# Altium footprint library Power Board UCC28951.PcbLib: 44 footprints (part 3 of 3)
Each footprint in its own frame and in the unit in brackets; x right, y up, seen from the top. Pads: shape width x height; smd on the part's side, far side on the other; paste and mask are expansions set on the pad; w line width, h text height; cw(c..) or ccw(c..) is an arc to the next point about the centre after c.
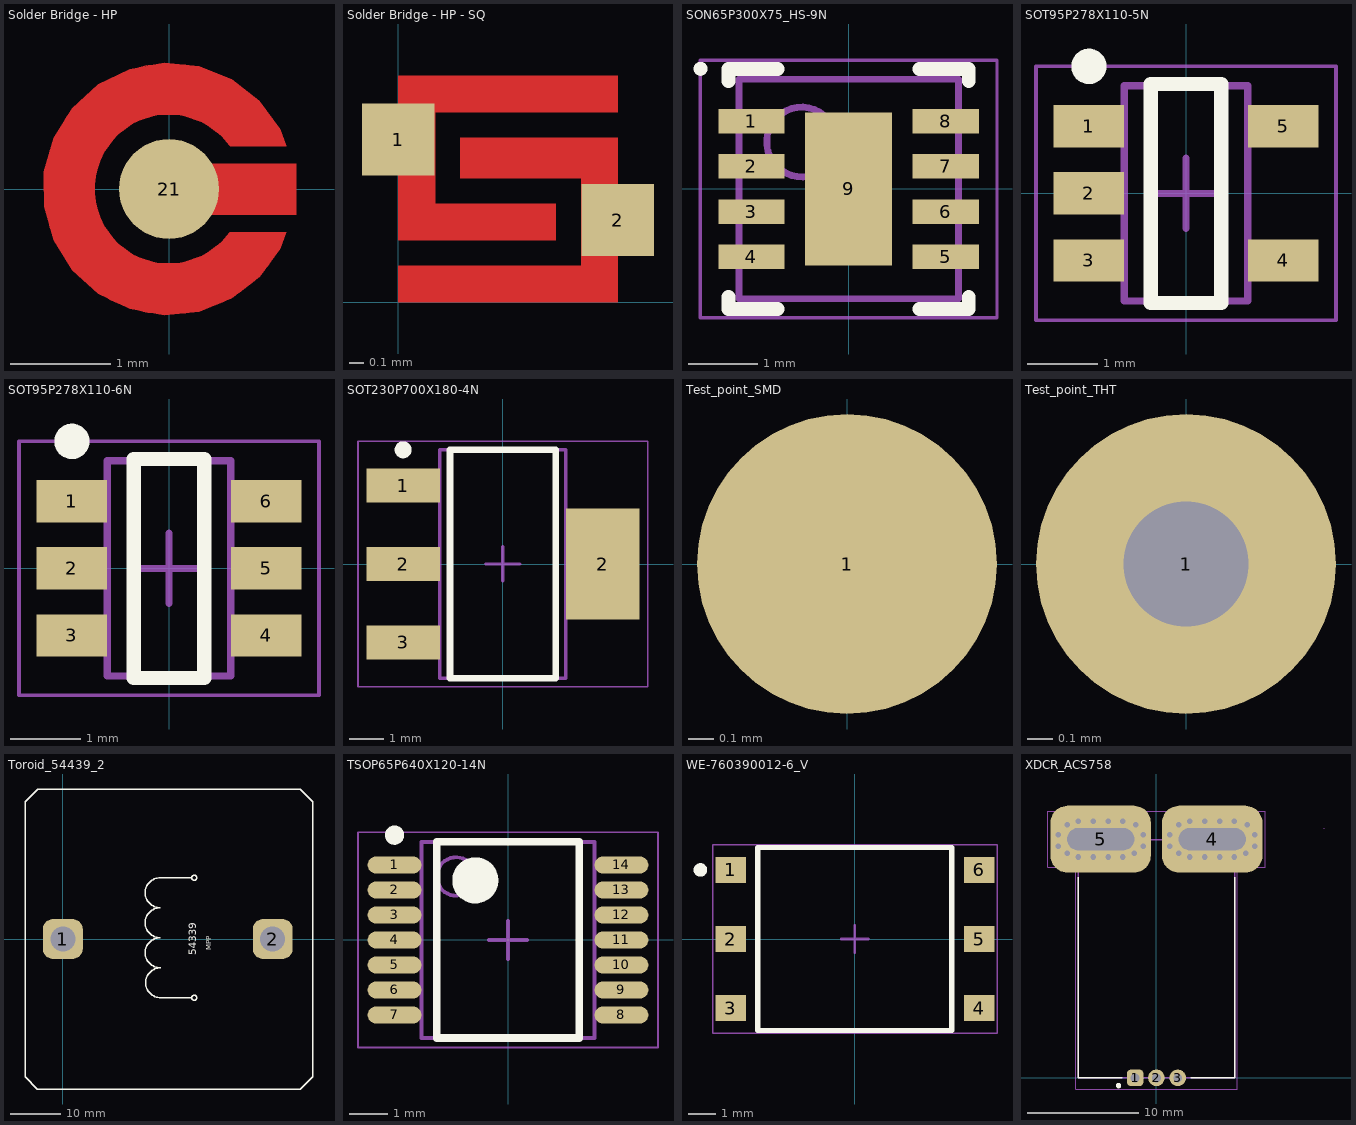
[diagram p2: the footprints below, top view; thin cyan lines are the x and y axes]

## Solder Bridge - HP [mm]
pads (1):
  round 1 smd: 21(0,0)
Top Layer:
  region: 1.173,-0.432 1.112,-0.596 0.905,-0.88 0.628,-1.095 0.303,-1.225 -0.046,-1.261 -0.392,-1.2 -0.707,-1.046 -0.967,-0.811 -1.153,-0.513 -1.25,-0.176 -1.25,0.175 -1.154,0.512 -0.968,0.81 -0.708,1.045 -0.393,1.2 -0.048,1.261 0.301,1.226 0.627,1.095 0.904,0.881 1.112,0.598 1.173,0.433 0.614,0.43 0.539,0.522 0.35,0.663 0.126,0.739 -0.11,0.742 -0.335,0.671 -0.527,0.533 -0.667,0.343 -0.741,0.118 -0.741,-0.118 -0.667,-0.343 -0.527,-0.533 -0.335,-0.671 -0.11,-0.742 0.126,-0.739 0.35,-0.663 0.539,-0.522 0.614,-0.43
  region: 0,-0.254 0,0.254 1.27,0.254 1.27,-0.254
  lines w0.01: 0,-0.254 1.27,-0.254 1.27,0.254 0,0.254 0,0 0,-0.254 ; 0.614,-0.43 cw(c0,0) 0.614,0.43 1.173,0.433 ccw(c0,0) 1.173,-0.432 0.614,-0.43
Top Solder:
  region: 0,-1.5 -0.148,-1.5 -0.438,-1.442 -0.711,-1.329 -0.956,-1.165 -1.165,-0.956 -1.329,-0.711 -1.442,-0.438 -1.5,-0.148 -1.5,0 -1.5,0.148 -1.442,0.438 -1.329,0.711 -1.165,0.956 -0.956,1.165 -0.711,1.329 -0.438,1.442 -0.148,1.5 0,1.5 0.148,1.5 0.438,1.442 0.711,1.329 0.956,1.165 1.165,0.956 1.329,0.711 1.442,0.438 1.5,0.148 1.5,0 1.5,-0.148 1.442,-0.438 1.329,-0.711 1.165,-0.956 0.956,-1.165 0.711,-1.329 0.438,-1.442 0.148,-1.5

## Solder Bridge - HP - SQ [mm]
pads (2):
  rect 0.5x0.5 smd: 1(0,1.13) 2(1.524,0.572)
Top Layer:
  region: 0,0 0,0.254 1.27,0.254 1.27,0.864 0.432,0.864 0.432,1.143 1.524,1.143 1.524,0
  region: 0,0.432 0,1.575 1.524,1.575 1.524,1.321 0.254,1.321 0.254,0.686 1.092,0.686 1.092,0.432
  lines w0.01: 0.254,0.686 0.254,1.321
Top Solder:
  region: -0.102,1.6
  region: -0.279,1.6 -0.279,-0.025 1.803,-0.025 1.803,1.6

## SON65P300X75_HS-9N [mm] "SON, 8-Leads, Body 3.00x3.00mm, Pitch 0.65mm, Thermal Pad 2.20x1.25mm, IPC Medium Density"
height 0.75
pads (9):
  rect 0.95x0.35 smd: 1(-1.395,0.975) 2(-1.395,0.325) 3(-1.395,-0.325) 4(-1.395,-0.975) 5(1.395,-0.975) 6(1.395,-0.325) 7(1.395,0.325) 8(1.395,0.975)
  rect 1.25x2.2 smd: 9(0,0)
Top Overlay:
  circle w0.1: c-2.125,1.725 r0.05
  lines w0.2: -1.725,-1.55 -1.725,-1.725 -1.02,-1.725 ; -1.725,1.55 -1.725,1.725 -1.02,1.725 ; 1.02,-1.725 1.725,-1.725 1.725,-1.55 ; 1.02,1.725 1.725,1.725 1.725,1.55
Mechanical 13:
  circle w0.1: c-0.675,0.675 r0.5
  lines w0.1: -1.575,-1.575 -1.575,1.575 1.575,1.575 1.575,-1.575 -1.575,-1.575
Mechanical 15:
  lines w0.05: -2.13,-1.85 -2.13,1.85 2.13,1.85 2.13,-1.85 -2.13,-1.85
  lines w0.1: -0.5,0 0.5,0 ; 0,-0.5 0,0.5
3D body "SON65P300X75_HS-9N.step": height 0.75, standoff 0, extent -1.675,-1.575 1.675,1.575

## SOT95P278X110-5N [mm] "SOT23, 5-Leads, Body 2.90x2.78mm, Pitch 0.95mm, IPC Medium Density"
height 1.1
pads (5):
  rect 1x0.6 smd: 1(-1.375,0.95) 2(-1.375,0) 3(-1.375,-0.95) 4(1.375,-0.95) 5(1.375,0.95)
Top Overlay:
  circle w0.25: c-1.375,1.8 r0.125
  lines w0.2: -0.5,-1.55 0.5,-1.55 0.5,1.55 -0.5,1.55 -0.5,-1.55
Mechanical 13:
  lines w0.1: -0.875,-1.525 -0.875,1.525 0.875,1.525 0.875,-1.525 -0.875,-1.525
Mechanical 15:
  lines w0.05: -2.125,-1.8 -2.125,1.8 2.125,1.8 2.125,-1.8 -2.125,-1.8
  lines w0.1: -0.5,0 0.5,0 ; 0,-0.5 0,0.5
3D body "SOT95P278X110-5N.step": height 1.1, standoff 0, extent -1.525,-1.525 1.525,1.525

## SOT95P278X110-6N [mm] "SOT23, 6-Leads, Body 2.90x2.78mm, Pitch 0.95mm, IPC Medium Density"
height 1.1
pads (6):
  rect 1x0.6 smd: 1(-1.375,0.95) 2(-1.375,0) 3(-1.375,-0.95) 4(1.375,-0.95) 5(1.375,0) 6(1.375,0.95)
Top Overlay:
  circle w0.25: c-1.375,1.8 r0.125
  lines w0.2: -0.5,-1.55 0.5,-1.55 0.5,1.55 -0.5,1.55 -0.5,-1.55
Mechanical 13:
  lines w0.1: -0.875,-1.525 -0.875,1.525 0.875,1.525 0.875,-1.525 -0.875,-1.525
Mechanical 15:
  lines w0.05: -2.125,-1.8 -2.125,1.8 2.125,1.8 2.125,-1.8 -2.125,-1.8
  lines w0.1: -0.5,0 0.5,0 ; 0,-0.5 0,0.5
3D body "SOT95P278X110-6N.step": height 1.1, standoff 0, extent -1.525,-1.525 1.525,1.525

## SOT230P700X180-4N [mm] "SOT223, 4-Leads, Body 6.50x7.00mm (avg), Pitch 2.30mm, IPC Medium Density"
height 1.8
pads (4):
  rect 2.15x1 smd: 1(-2.925,2.3) 2(-2.925,0) 3(-2.925,-2.3)
  rect 2.15x3.25 smd: 2(2.925,0)
Top Overlay:
  circle w0.25: c-2.925,3.35 r0.125
  lines w0.2: -1.55,-3.35 -1.55,3.35 1.55,3.35 1.55,-3.35 -1.55,-3.35
Mechanical 13:
  lines w0.1: -1.85,-3.35 -1.85,3.35 1.85,3.35 1.85,-3.35 -1.85,-3.35
Mechanical 15:
  lines w0.05: -4.25,-3.6 -4.25,3.6 4.25,3.6 4.25,-3.6 -4.25,-3.6
  lines w0.1: -0.5,0 0.5,0 ; 0,-0.5 0,0.5
3D body "SOT230P700X180-4N.step": height 1.8, standoff 0, extent -3.5,-3.35 3.5,3.35

## Test_point_SMD [mm]
pads (1):
  round 1.2 smd: 1(0,0)

## Test_point_THT [mm]
pads (1):
  round 1.2 hole 0.5: 1(0,0)

## Toroid_54439_2 [mm]
pads (2):
  rrect50% 8x8 hole 5: 1(0,0) 2(42,0)
Top Overlay:
  circle w0.254: c26.29,-11.748 r0.5
  circle w0.254: c26.29,12.252 r0.5
  lines w0.254: 19.49,-5.748 cw(c19.49,-2.748) 19.49,0.252 cw(c19.49,3.252) 19.49,6.252 cw(c19.49,9.252) 19.49,12.252 25.69,12.252 ; 19.59,-5.748 ccw(c19.59,-8.748) 19.59,-11.748 25.69,-11.748 ; -7.5,-27.588 -7.5,0 -7.5,27.5 -5,30 47.5,30 50,27.5 50,-27.5 47.5,-30 -5.088,-30 -7.5,-27.588
  text "MPP" at 29.746,-2.246 h1
  text "54339" at 26.661,-3.269 h1.52
3D body "toroid 54439_2.x_t": height 67.26, standoff -3.33, extent -1.7,-27.588 44.3,27.785

## TSOP65P640X120-14N [mm] "TSOP, 14-Leads, Body 5.00x4.40mm, Pitch 0.65mm, IPC Medium Density"
height 1.2
pads (14):
  oval 1.4x0.45 smd: 1(-2.95,1.95) 2(-2.95,1.3) 3(-2.95,0.65) 4(-2.95,0) 5(-2.95,-0.65) 6(-2.95,-1.3) 7(-2.95,-1.95) 8(2.95,-1.95) 9(2.95,-1.3) 10(2.95,-0.65) 11(2.95,0) 12(2.95,0.65) 13(2.95,1.3) 14(2.95,1.95)
Top Overlay:
  circle w0.6: c-0.85,1.55 r0.3
  circle w0.25: c-2.95,2.725 r0.125
  lines w0.2: -1.85,-2.55 1.85,-2.55 1.85,2.55 -1.85,2.55 -1.85,-2.55
Mechanical 13:
  circle w0.1: c-1.35,1.65 r0.5
  lines w0.1: -2.25,-2.55 2.25,-2.55 2.25,2.55 -2.25,2.55 -2.25,-2.55
Mechanical 15:
  lines w0.05: -3.9,-2.8 3.9,-2.8 3.9,2.8 -3.9,2.8 -3.9,-2.8
  lines w0.1: -0.5,0 0.5,0 ; 0,-0.5 0,0.5
3D body "TSOP65P640X120-14N.step": height 1.2, standoff 0, extent -3.2,-2.55 3.2,2.55

## WE-760390012-6_V [mm] "SMD, 6-Leads, Body 7.14x6.73mm, Pitch 2.54mm"
height 4.19
pads (6):
  rect 1.12x0.96 smd: 1(-4.57,2.54) 2(-4.57,0) 3(-4.57,-2.54) 4(4.57,-2.54) 5(4.57,0) 6(4.57,2.54)
Top Overlay:
  circle w0.25: c-5.68,2.54 r0.125
  lines w0.2: -3.57,-3.365 3.57,-3.365 3.57,3.365 -3.57,3.365 -3.57,-3.365
Mechanical 13:
  lines w0.1: -3.57,-3.365 -3.57,3.365 3.57,3.365 3.57,-3.365 -3.57,-3.365
Mechanical 15:
  lines w0.05: -5.23,-3.465 5.23,-3.465 5.23,3.465 -5.23,3.465 -5.23,-3.465
  lines w0.1: -0.5,0 0.5,0 ; 0,-0.5 0,0.5
3D body "760390012_Download_STP_250-1109_rev1.STEP": height 3.92, standoff -0.14, extent -5.005,-3.25 4.955,3.23

## XDCR_ACS758 [mm]
pads (37):
  rrect50% 1.5x1.5 hole 0.8: 1(-1.91,0)
  round 1.5 hole 0.8: 2(0,0) 3(1.91,0)
  rrect50% 9x6 hole 2 slot 6 at 0 deg: 4(5,21.4) 5(-5,21.4)
  round 0.8 hole 0.5: 4_1(3,19.8) 4_2(4.33,19.8) 4_3(5.66,19.8) 4_4(6.99,19.8) 4_5(8,20.13) 4_6(8.8,20.75) 4_7(8.8,21.8) 4_8(8.15,22.7) 4_9(6.99,23) 4_10(5.66,23) 4_11(4.33,23) 4_12(3,23) 4_13(2,22.7) 4_14(1.2,21.8) 4_15(1.2,20.75) 4_16(2,20.13) 5_1(-7,19.8) 5_2(-5.67,19.8) 5_3(-4.34,19.8) 5_4(-3.01,19.8) 5_5(-8,20.13) 5_6(-8.8,20.75) 5_7(-8.8,21.8) 5_8(-8,22.7) 5_9(-7,23) 5_10(-5.67,23) 5_11(-4.34,23) 5_12(-3.01,23) 5_13(-1.85,22.7) 5_14(-1.2,21.8) 5_15(-1.2,20.75) 5_16(-2,20.13)
Top Overlay:
  circle w0.24: c-3.4,-0.7 r0.12
  lines w0.127: -7,18 -7,0 -3.06,0 ; 3.06,0 7,0 7,18
Mechanical 1:
  lines w0: -5,22.4 -4.95,22.4 ; 5,22.4 5.05,22.4 ; 15,22.4 15.05,22.4 ; -7,20.4 cw(c-7,21.4) -7,22.4 -3,22.4 cw(c-3,21.4) -3,20.4 -7,20.4 ; 3,20.4 cw(c3,21.4) 3,22.4 7,22.4 cw(c7,21.4) 7,20.4 3,20.4
Mechanical 13:
  lines w0.127: -7,0 -7,21.341 7,21.341 7,0 -7,0
Mechanical 15:
  lines w0.05: -9.75,18.9 -7.25,18.9 -7.25,-1 7.25,-1 7.25,18.9 9.75,18.9 9.75,23.9 -9.75,23.9 -9.75,18.9
3D body "ACS758.STEP": height 7, standoff -3.5, extent -7,-0.1 7,22.25